# Altium schematic symbol library PMS5003_breakout.SchLib: 1 symbol
Pins are listed as number, name and electrical type; pins without a type are passive.

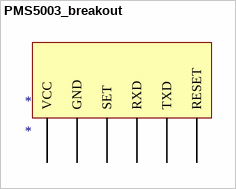
[diagram p0: symbol PMS5003_breakout]

## PMS5003_breakout
designator *
footprint PCBComponent_1
pins: GND, RESET, RXD, SET, TXD, VCC